# EAGLE library part LD15S24A4GV00LF (library ruark2)
15 Position D-Sub Receptacle, Female Sockets Connector
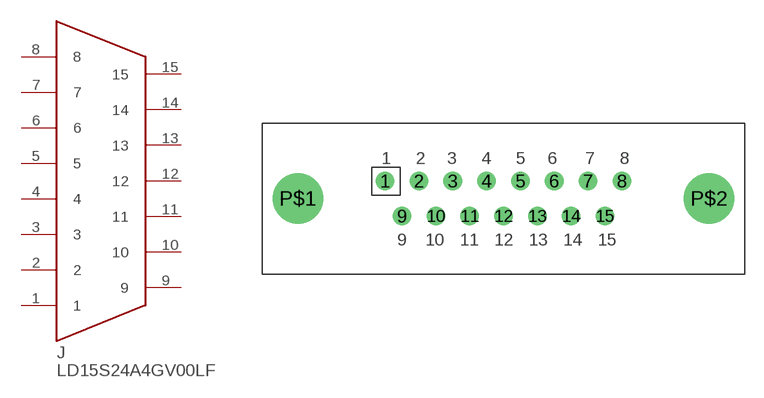
[diagram p70: symbol with the pads of DSUB15_VERT; footprint DSUB15_VERT]

Designator prefix J

## LD15S24A4GV00LF (PARTNO: 609-5195-ND; VALUE: DSUB15 FEMALE)  [DSUB15_VERT]
1  1
2  2
3  3
4  4
5  5
6  6
7  7
8  8
9  9
10  10
11  11
12  12
13  13
14  14
15  15

## Footprint DSUB15_VERT (pad centres in mm)
drill 1: 1 -9.59,1.42; 2 -6.85,1.42; 3 -4.11,1.42; 4 -1.37,1.42; 5 1.37,1.42; 6 4.11,1.42; 7 6.85,1.42; 8 9.59,1.42; 9 -8.22,-1.42; 10 -5.48,-1.42; 11 -2.74,-1.42; 12 0,-1.42; 13 2.74,-1.42; 14 5.48,-1.42; 15 8.22,-1.42
drill 3.1: P$1 -16.66,0; P$2 16.66,0